# Altium footprint library SW_VS-1213-67-160GF.PcbLib: 1 footprints
Each footprint in its own frame and in the unit in brackets; x right, y up, seen from the top. Pads: shape width x height; smd on the part's side, far side on the other; paste and mask are expansions set on the pad; w line width, h text height; cw(c..) or ccw(c..) is an arc to the next point about the centre after c.
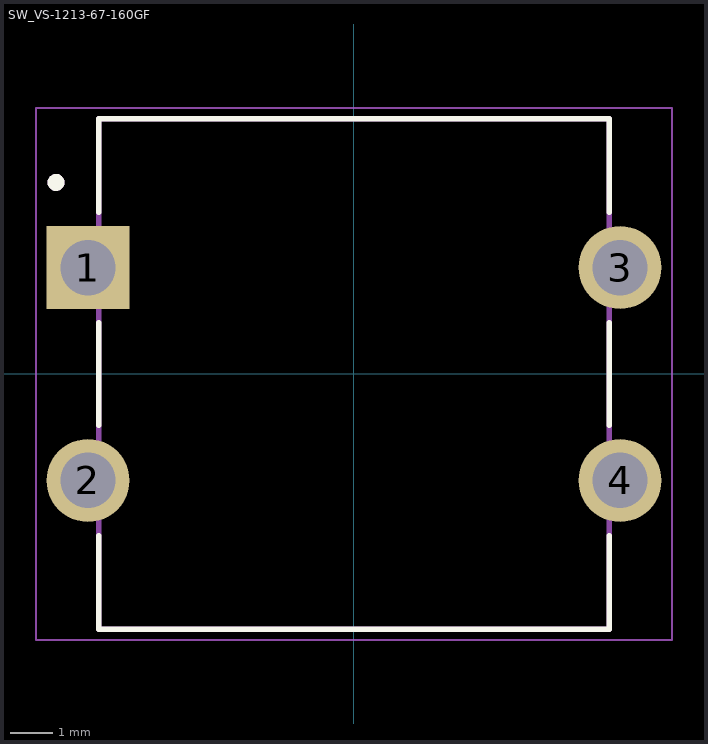
[diagram p0: the footprint, top view; thin cyan lines are the x and y axes]

## SW_VS-1213-67-160GF [mm]
pads (4):
  rect 1.95x1.95 hole 1.3: 1(-6.25,2.5)
  round 1.95 hole 1.3: 2(-6.25,-2.5) 3(6.25,2.5) 4(6.25,-2.5)
Top Overlay:
  circle w0.2: c-7,4.5 r0.1
  lines w0.127: -6,-3.8 -6,-6 6,-6 6,-3.8 ; -6,-1.205 -6,1.205 ; -6,3.795 -6,6 6,6 6,3.795 ; 6,-1.205 6,1.205
Mechanical 13:
  circle w0.2: c-7,4.5 r0.1
  lines w0.127: -6,-1 -6,1 ; 6,-1 6,1 ; -6,-6 6,-6 6,6 -6,6 -6,-6
Mechanical 15:
  lines w0.05: -7.475,-6.25 7.475,-6.25 7.475,6.25 -7.475,6.25 -7.475,-6.25